# Altium integrated library DIP-GAS-MQ-5_6P-D19MM_.IntLib: 1 symbol
Pins are listed as number, name and electrical type; pins without a type are passive.

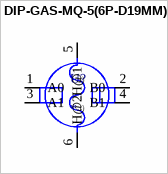
[diagram p0: symbol DIP-GAS-MQ-5(6P-D19MM)]

## DIP-GAS-MQ-5(6P-D19MM)
designator U?
314100000; MP: MQ-5; Package: None; Price: None; Value: *; Availability: Unavailable
footprint SNR6-D19.0MM
pins: 1 A0 (io), 2 B0 (io), 3 A1 (io), 4 B1 (io), 5 H@1 (io), 6 H@2 (io)